# EAGLE library part PZEM (library pzem)
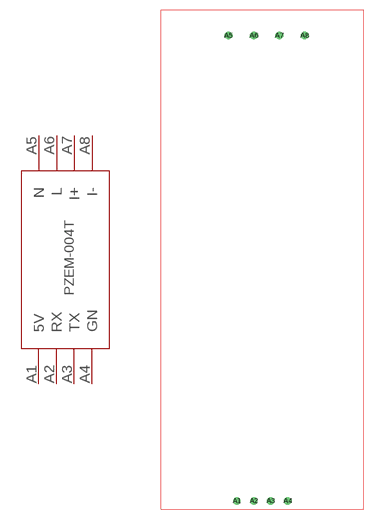
[diagram p0: symbol with the pads of PZEM_FOOTPRINT; footprint PZEM_FOOTPRINT]

Designator prefix -

## PZEM  [PZEM_FOOTPRINT]
A1  5V
A2  RX
A3  TX
A4  GN
A5  N
A6  L
A7  I+
A8  I-

## Footprint PZEM_FOOTPRINT (pad centres in mm)
drill 0.6: A1 11.43,1.27; A2 13.97,1.27; A3 16.51,1.27; A4 19.05,1.27
drill 0.65: A5 10.16,71.12; A6 13.97,71.12; A7 17.78,71.12; A8 21.59,71.12